# EAGLE library part USB-A-FM (library kanflo)
A vertical USB A female connector
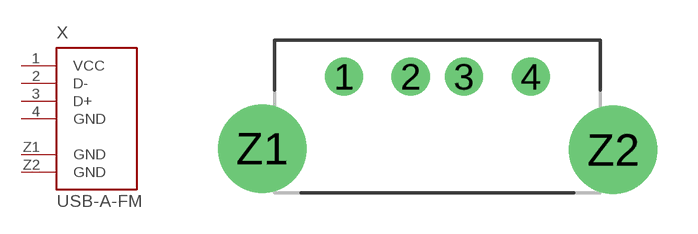
[diagram p20: symbol with the pads of USB-A-FEMALE-VERTICAL; footprint USB-A-FEMALE-VERTICAL]

Designator prefix X

## USB-A-FMVERTICAL  [USB-A-FEMALE-VERTICAL]
1  VCC  pas
2  D-  pas
3  D+  pas
4  GND  pas
Z1  GND
Z2  GND

## Footprint USB-A-FEMALE-VERTICAL (pad centres in mm)
drill 0.92: 1 -3.5,1.43; 2 -1,1.43; 3 1,1.43; 4 3.5,1.43
drill 2.3: Z1 -6.57,-1.27; Z2 6.59,-1.32